# Altium schematic symbol library APAN3105.SchLib: 1 symbol
Pins are listed as number, name and electrical type; pins without a type are passive.

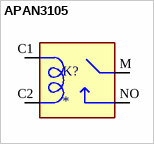
[diagram p0: symbol APAN3105]

## APAN3105
designator K?
Relay: electromagnetic; SPST-NO; Ucoil: 5VDC; 5A/30VAC; 5A/250VDC; MP: APAN3105; MF: {'manufacturer': u'Panasonic'}; Availability: Unavailable; Package: None; Value: *; Price: None
footprint RELAY_APAN3105
pins: C1, C2, M, NO